# Altium schematic symbol library XTAL,16MHz,18pF,Thru.Schlib: 1 symbol
Pins are listed as number, name and electrical type; pins without a type are passive.

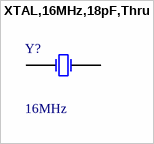
[diagram p0: symbol XTAL,16MHz,18pF,Thru]

## XTAL,16MHz,18pF,Thru
designator Y?, comment 16MHz
16 MHz ±30ppm Crystal 18pF 40 Ohms HC-49/US
pins: 1 OSC1, 2 GND